# Altium integrated library FUSE_1812 MF-MSMF010-2.IntLib: 1 symbol
Pins are listed as number, name and electrical type; pins without a type are passive.

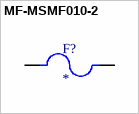
[diagram p0: symbol MF-MSMF010-2]

## MF-MSMF010-2
designator F?
Polymeric PTC Resettable Fuse 60V 100 mA Ih Surface Mount 1812 (4532 Metric), Concave; MP: MF-MSMF010-2; MF: Bourns; Price: None; Availability: In Stock; Package: 1812 Bourns; SnapEDA_Link: https://www.snapeda.com/parts/MF-MSMF010-2/Bourns/view-part/?ref=snap; Check_prices: https://www.snapeda.com/parts/MF-MSMF010-2/Bourns/view-part/?ref=eda; Value: *; Purchase-URL: https://pricing.snapeda.com/search/part/MF-MSMF010-2/?ref=eda
footprint FUSER_MF-MSMF010-2
pins: 1, 2